# Altium footprint library CAPPOL-30x35.PcbLib: 1 footprints
Each footprint in its own frame and in the unit in brackets; x right, y up, seen from the top. Pads: shape width x height; smd on the part's side, far side on the other; paste and mask are expansions set on the pad; w line width, h text height; cw(c..) or ccw(c..) is an arc to the next point about the centre after c.
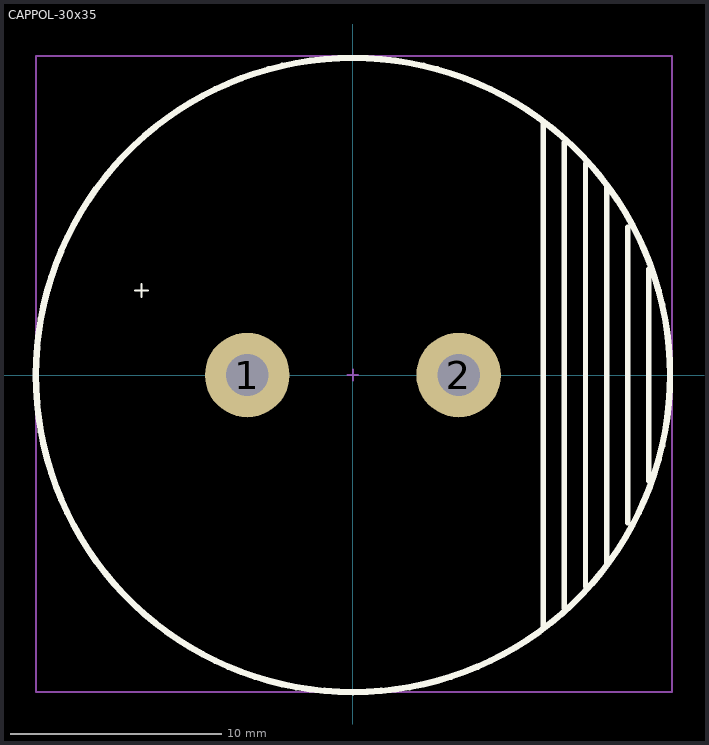
[diagram p0: the footprint, top view; thin cyan lines are the x and y axes]

## CAPPOL-30x35 [mm]
height 0.95
pads (2):
  round 4 hole 2: 1(-5,0) 2(5,0)
Top Overlay:
  circle w0.3: c0,0 r15
  lines w0.1: -10.3,4 -9.7,4 ; -10,3.7 -10,4.3
  lines w0.254: 9,-12 9,12 ; 10,-11 10,11 ; 11,-10 11,10 ; 12,-9 12,9 ; 13,-7 13,7 ; 14,-5 14,5
Top Assembly:
  lines w0.1: -0.25,0 0.247,0 ; 0,-0.25 0,0.25 ; -15,-15 -15,15.1 15.1,15.1 15.1,-15 -15,-15
  text "'.Designator'" at 0,0 h0.7
3D body "HITANO 1500uF 100V EHU 105C (N).STEP": height 31.53, standoff -6.67, extent -15,-15 15.1,15.1